# Altium schematic symbol library InMotion.Schlib: 1 symbol
Pins are listed as number, name and electrical type; pins without a type are passive.

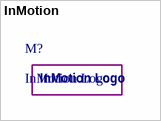
[diagram p0: symbol InMotion]

## InMotion
designator M?, comment InMotion Logo  (no BOM)